# EAGLE library part ICS-43432 (library lpatiny)
Low-Noise Microphone with I 2 S Digital Output
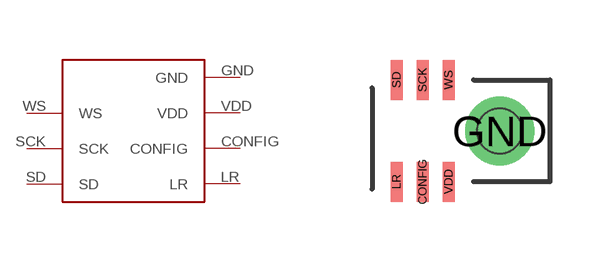
[diagram p28: symbol with the pads of ICS43-432; footprint ICS43-432]

Designator prefix -

## ICS-43432  [ICS43-432]
CONFIG  CONFIG
GND  GND
LR  LR
SCK  SCK
SD  SD
VDD  VDD
WS  WS

## Footprint ICS43-432 (pad centres in mm)
Low-Noise Microphone with I 2 S Digital Output
smd 0.3 x 1: CONFIG 0,-2.35; LR -0.65,-2.35; SCK 0,0.2; SD -0.65,0.2; VDD 0.65,-2.35; WS 0.65,0.2
drill 1.15 pad 1.65: GND 1.925,-1.08
hole 1.13 at 1.925,-1.08